# EAGLE library part LCD2X16 (library mylib)
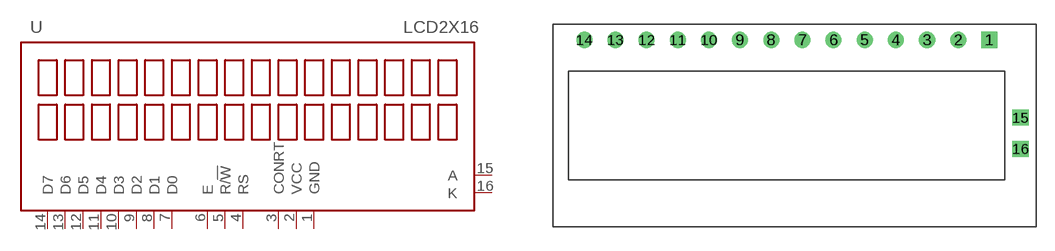
[diagram p5: symbol with the pads of LCD2X16; footprint LCD2X16]

Designator prefix -

## LCD2X16  [LCD2X16]
1  GND
2  VCC
3  CONRT
4  RS
5  R/!W
6  E
7  D0
8  D1
9  D2
10  D3
11  D4
12  D5
13  D6
14  D7  in
15  A
16  K

## Footprint LCD2X16 (pad centres in mm)
drill 0.8 square: 1 16.51,7.62; 15 19.05,1.27; 16 19.05,-1.27
drill 0.8: 2 13.97,7.62; 3 11.43,7.62; 4 8.89,7.62; 5 6.35,7.62; 6 3.81,7.62; 7 1.27,7.62; 8 -1.27,7.62; 9 -3.81,7.62; 10 -6.35,7.62; 11 -8.89,7.62; 12 -11.43,7.62; 13 -13.97,7.62; 14 -16.51,7.62